# EAGLE library part ZX62D-B-5PA8 (library ESP12_BusinessCard)
Micro USB Type B Connector - Standard, Shell Through Hole Source: http://www.hirose.co.jp/cataloge_hp/ed_ZX_20140804.pdf
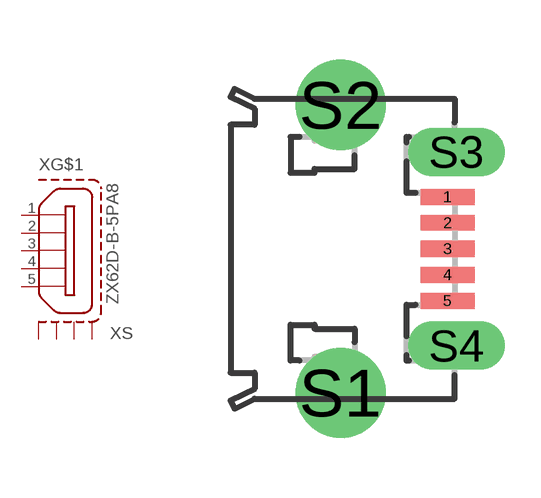
[diagram p2: symbol with the pads of ZX62D-B-5PA8; footprint ZX62D-B-5PA8]

Designator prefix X; gates G$1=MICRO-USB S=MICRO-USB-SHIELD

## ZX62D-B-5PA8 (MF: Hirose; MPN: ZX62D-B-5PA8; OC_FARNELL: 2300438; OC_NEWARK: 69W0712)  [ZX62D-B-5PA8]
1  G$1:1  pas
2  G$1:2  pas
3  G$1:3  pas
4  G$1:4  pas
5  G$1:5  pas
S1  S:S1  pas
S2  S:S2  pas
S3  S:S3  pas
S4  S:S4  pas

## Footprint ZX62D-B-5PA8 (pad centres in mm)
Micro USB Type B Connector - Standard, Shell Through Hole Source: http://www.hirose.co.jp/cataloge_hp/ed_ZX_20140804.pdf
smd 1.35 x 0.4: 1 4.825,1.3; 2 4.825,0.65; 3 4.825,0; 4 4.825,-0.65; 5 4.825,-1.3
drill 1.5: S1 2.15,-3.6; S2 2.15,3.6
drill 0.7 long: S3 5.05,2.425; S4 5.05,-2.425